# Altium footprint library LX1-Fans.PcbLib: 3 footprints
Each footprint in its own frame and in the unit in brackets; x right, y up, seen from the top. Pads: shape width x height; smd on the part's side, far side on the other; paste and mask are expansions set on the pad; w line width, h text height; cw(c..) or ccw(c..) is an arc to the next point about the centre after c.
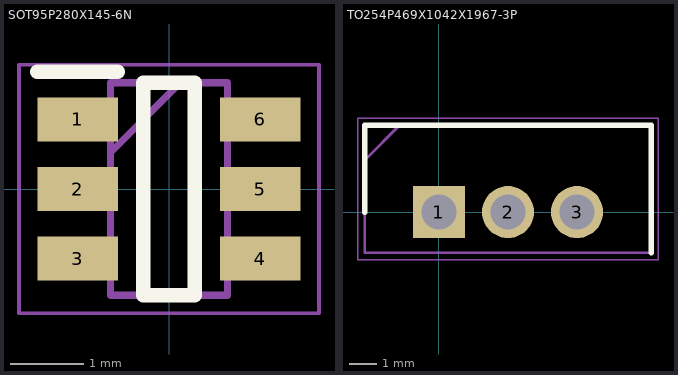
[diagram p0: the footprints below, top view; thin cyan lines are the x and y axes]

## PCBComponent_1 [mm]

## SOT95P280X145-6N [mm]
pads (6):
  rect 1.1x0.6 smd: 1(-1.25,0.95) 2(-1.25,0) 3(-1.25,-0.95) 4(1.25,-0.95) 5(1.25,0) 6(1.25,0.95)
Top Overlay:
  lines w0.2: -1.8,1.6 -0.7,1.6 ; -0.35,-1.45 -0.35,1.45 0.35,1.45 0.35,-1.45 -0.35,-1.45
Mechanical 13:
  lines w0.1: -0.8,0.5 0.15,1.45 ; -0.8,-1.45 -0.8,1.45 0.8,1.45 0.8,-1.45 -0.8,-1.45
Mechanical 15:
  lines w0.05: -2.05,-1.7 -2.05,1.7 2.05,1.7 2.05,-1.7 -2.05,-1.7
3D body "1EDN7511BXUSA1.stp": height 1.45, standoff 0, extent -1.4,-1.45 1.4,1.45

## TO254P469X1042X1967-3P [mm]
pads (3):
  rect 1.92x1.92 hole 1.28: 1(0,0)
  round 1.92 hole 1.28: 2(2.54,0) 3(5.08,0)
Top Overlay:
  lines w0.2: -2.73,0 -2.73,3.195 7.81,3.195 7.81,-1.495
Mechanical 13:
  lines w0.1: -2.73,1.925 -1.46,3.195 ; -2.73,-1.495 -2.73,3.195 7.81,3.195 7.81,-1.495 -2.73,-1.495
Mechanical 15:
  lines w0.05: -2.98,-1.745 -2.98,3.445 8.06,3.445 8.06,-1.745 -2.98,-1.745
3D body "IRLZ44NPBF.stp": height 18.84, standoff -17.51, extent -2.668,-1.495 7.748,3.195